# EAGLE library part LM3489 (library texas-usbc)
LM3489x Hysteretic PFET Buck Controller With Enable Pin
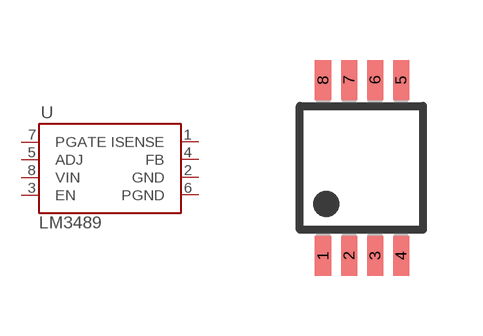
[diagram p6: symbol with the pads of DGK_S-PDSO-G8; footprint DGK_S-PDSO-G8]

Designator prefix U

## LM3489  [DGK_S-PDSO-G8]
1  ISENSE  in
2  GND  sup
3  EN  in
4  FB  in
5  ADJ  in
6  PGND  sup
7  PGATE  out
8  VIN  pwr

## LM3489-Q1  [DGK_S-PDSO-G8]
Pads as for DGK_S-PDSO-G8

## Footprint DGK_S-PDSO-G8 (pad centres in mm)
8-Pin MSOP (DGK) Package Source: DGK (S-PDSO-G8) <http://www.ti.com/lit/ml/mpds028d/mpds028d.pdf>
smd 0.4 x 1: 1 -0.975,-2.2; 2 -0.325,-2.2; 3 0.325,-2.2; 4 0.975,-2.2; 5 0.975,2.2; 6 0.325,2.2; 7 -0.325,2.2; 8 -0.975,2.2